# Altium schematic symbol library Capacitors.SchLib: 69 symbols
Pins are listed as number, name and electrical type; pins without a type are passive.

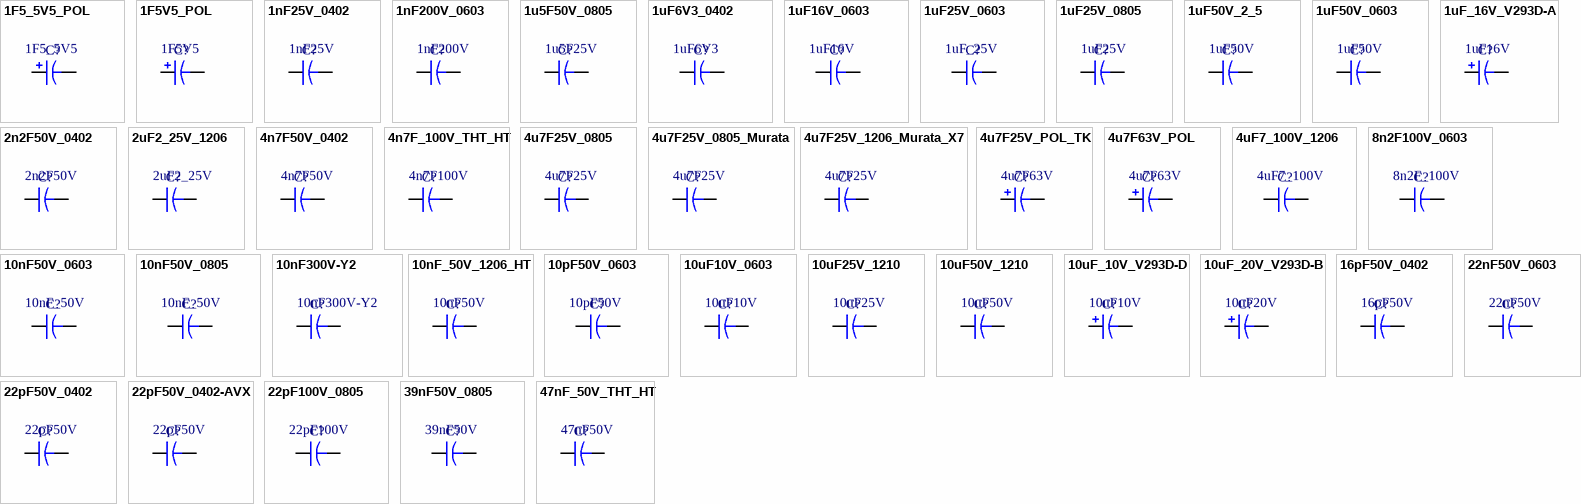
[diagram p0: symbols 1F5_5V5_POL to 47nF_50V_THT_HT]

## 1F5_5V5_POL
designator C?  value 1F5_5V5  (hidden comment: 1F5_5V5_POL)
Panasonic, F series; Deliverer PartNr: 1305065; Manufacturer PartNr: EECF5R5U155; Deliverer: Farnell; TDE-PN: C0042; Published: 26.02.2014; Part Description: Panasonic, F series; Publisher: Sebastian Kulik; PackageDescription: Goldcap-B; Manufacturer: Panasonic
simulation model CAP (Capacitor)
signal-integrity model Cap
footprint Goldcap_B (Capacitor, Body 21.5x9.5mm, IPC High Density)
pins: 1, 2

## 1F5V5_POL
designator C?  value 1F5V5  (hidden comment: 1F5V5_POL)
Panasonic, F series; Deliverer PartNr: 1305063; Manufacturer PartNr: EECF5R5H105; Deliverer: Farnell; TDE-PN: C0041; Published: 26.02.2014; Part Description: Panasonic, F series; Publisher: Sebastian Kulik; PackageDescription: Goldcap-B; Manufacturer: Panasonic
simulation model CAP (Capacitor)
signal-integrity model Cap
footprint Goldcap_B (Capacitor, Body 21.5x9.5mm, IPC High Density)
pins: 1, 2

## 1nF25V_0402
designator C?  value 1nF25V  (hidden comment: 1nF25V_0402)
AVX, X7R, 10%, 25V; Deliverer PartNr: 2332485; Manufacturer PartNr: 04023C102KAT2A; Deliverer: Farnell; TDE-PN: C0001; Published: 11.02.2014; Part Description: AVX, X7R, 10%, 25V; Publisher: Sebastian Kulik; PackageDescription: C0402; Manufacturer: AVX
footprint C0402 (Chip Capacitor, Body 1.0x0.5mm, IPC High Density)
simulation model CAP (Capacitor)
signal-integrity model Cap
pins: 1, 2

## 1nF200V_0603
designator C?  value 1nF200V  (hidden comment: 1nF200V_0603)
MLCC series, X7R, 10%, 200V; Deliverer PartNr: 1740637; Manufacturer: AVX; Manufacturer PartNr: 06032C102KAT2A; Deliverer: Farnell; TDE-PN: C0002; Published: 11.03.2014; Part Description: MLCC series, X7R, 10%, 200V; Publisher: Sebastian Kulik; PackageDescription: C0603
footprint C0603 (Chip Capacitor, 0603)
simulation model CAP (Capacitor)
signal-integrity model Cap
pins: 1, 2

## 1u5F50V_0805
designator C?  value 1u5F25V  (hidden comment: 1u5F50V_0805)
X7R, 10%; Deliverer PartNr: 723-6098; Manufacturer: Murata; Manufacturer PartNr: GRM21BR71E155KA88L; Deliverer: RS; TDE-PN: C0064; Published: 19.02.2016; Part Description: X7R, 10%; Publisher: Sebastian Kulik; PackageDescription: C0805
footprint C0805 (Chip Capacitor, Body 2.0x1.3mm, IPC High Density)
simulation model CAP (Capacitor)
signal-integrity model Cap
pins: 1, 2

## 1uF6V3_0402
designator C?  value 1uF6V3  (hidden comment: 1uF6V3_0402)
AVX, X5R, 10%, 6V3; Deliverer PartNr: 1327658; Manufacturer PartNr: 04026D105KAT2A; Deliverer: Farnell; TDE-PN: C0003; Published: 11.02.2014; Part Description: AVX, X5R, 10%, 6V3; Publisher: Sebastian Kulik; PackageDescription: C0402; Manufacturer: AVX
footprint C0402 (Chip Capacitor, Body 1.0x0.5mm, IPC High Density)
simulation model CAP (Capacitor)
signal-integrity model Cap
pins: 1, 2

## 1uF16V_0603
designator C?  value 1uF16V  (hidden comment: 1uF16V_0603)
C series, X5R, 16V,  10%; Deliverer PartNr: 2280767; Manufacturer: TDK; Manufacturer PartNr: C1608X5R1C105K080AA; Deliverer: Farnell; TDE-PN: C0004; Published: 11.03.2014; Part Description: C series, X5R, 16V,  10%; Publisher: Sebastian Kulik; PackageDescription: C0603
footprint C0603 (Chip Capacitor, 0603)
simulation model CAP (Capacitor)
signal-integrity model Cap
pins: 1, 2

## 1uF25V_0603
designator C?  value 1uF_25V  (hidden comment: 1uF25V_0603)
MLCC series, X5R, 10%, 25V; Deliverer PartNr: 1658868RL; Manufacturer: AVX; Manufacturer PartNr: 06033D105KAT2A; Deliverer: Farnell; TDE-PN: C0006; Published: 13.02.2014; Part Description: MLCC series, X5R, 10%, 25V; Publisher: Sebastian Kulik; PackageDescription: C0603
footprint C0603 (Chip Capacitor, 0603)
simulation model CAP (Capacitor)
signal-integrity model Cap
pins: 1, 2

## 1uF25V_0805
designator C?  value 1uF25V  (hidden comment: 1uF25V_0805)
X7R, 10%; Deliverer PartNr: 1833845RL; Manufacturer: AVX; Manufacturer PartNr: 08053C105K4Z2A; Deliverer: Farnell; TDE-PN: C0051; Published: 28.10.2014; Part Description: X7R, 10%; Publisher: Sebastian Kulik; PackageDescription: C0805
footprint C0805 (Chip Capacitor, Body 2.0x1.3mm, IPC High Density)
simulation model CAP (Capacitor)
signal-integrity model Cap
pins: 1, 2

## 1uF50V_2_5
designator C?  value 1uF50V  (hidden comment: 1uF50V_2_5)
Polyester, 10%; Deliverer PartNr: 1890122; Manufacturer: WIMA; Manufacturer PartNr: MKS0B041000F00KSSD; Deliverer: Farnell; TDE-PN: C0052; Published: 05.11.2014; Part Description: Polyester, 10%; Publisher: Sebastian Kulik; PackageDescription: C2.5-3
footprint C2.5-3
simulation model CAP (Capacitor)
signal-integrity model Cap
pins: 1, 2

## 1uF50V_0603
designator C?  value 1uF50V  (hidden comment: 1uF50V_0603)
C series, X5R, 10%; Deliverer PartNr: 2211179; Manufacturer: TDK; Manufacturer PartNr: C1608X5R1H105K080AB; Deliverer: Farnell; TDE-PN: C0037; Published: 13.02.2014; Part Description: C series, X5R, 10%; Publisher: Sebastian Kulik; PackageDescription: C0603
footprint C0603 (Chip Capacitor, 0603)
simulation model CAP (Capacitor)
signal-integrity model Cap
pins: 1, 2

## 1uF_16V_V293D-A
designator C?  value 1uF16V  (hidden comment: 1uF_16V_V293D-A)
293 series, tantal, 10%, 16V; Deliverer PartNr: 1617260; Manufacturer: Vishay; Manufacturer PartNr: 293D105X9016A2TE3; Deliverer: Farnell; TDE-PN: C0005; Published: 11.03.2014; Part Description: 293 series, tantal, 10%, 16V; Publisher: Sebastian Kulik; PackageDescription: Vishay-293D-A
simulation model CAP (Capacitor)
signal-integrity model Cap
footprint Vishay293D-A
pins: 1, 2

## 2n2F50V_0402
designator C?  value 2n2F50V  (hidden comment: 2n2F50V_0402)
AVX, X7R, 10%, 50V; Deliverer PartNr: 2280791; Manufacturer PartNr: 04025C472KAT2A; Deliverer: Farnell; TDE-PN: C0008; Published: 11.03.2014; Part Description: AVX, X7R, 10%, 50V; Publisher: Sebastian Kulik; PackageDescription: C0402; Manufacturer: AVX
footprint C0402 (Chip Capacitor, Body 1.0x0.5mm, IPC High Density)
simulation model CAP (Capacitor)
signal-integrity model Cap
pins: 1, 2

## 2uF2_25V_1206
designator C?  value 2uF2_25V  (hidden comment: 2uF2_25V_1206)
C series, X7R, 10%, 25V; Deliverer PartNr: 2164399; Manufacturer: TDK; Manufacturer PartNr: C3216X7R1E225K; Deliverer: Farnell; TDE-PN: C0009; Published: 11.03.2014; Part Description: C series, X7R, 10%, 25V; Publisher: Sebastian Kulik; PackageDescription: C1206
simulation model CAP (Capacitor)
signal-integrity model Cap
footprint C1206 (Chip Capacitor, Body 3.2x1.6mm, IPC High Density)
pins: 1, 2

## 4n7F50V_0402
designator C?  value 4n7F50V  (hidden comment: 4n7F50V_0402)
AVX, X7R, 10%, 50V; Deliverer PartNr: 1327656; Manufacturer PartNr: 04025C472KAT2A; Deliverer: Farnell; TDE-PN: C0010; Published: 11.02.2014; Part Description: AVX, X7R, 10%, 50V; Publisher: Sebastian Kulik; PackageDescription: C0402; Manufacturer: AVX
footprint C0402 (Chip Capacitor, Body 1.0x0.5mm, IPC High Density)
simulation model CAP (Capacitor)
signal-integrity model Cap
pins: 1, 2

## 4n7F_100V_THT_HT
designator C?  value 4n7F100V  (hidden comment: 4n7F_100V_THT_HT)
High Temp C052/062H series, NP0, 10%, 100V; Part Description: High Temp C052/062H series, NP0, 10%, 200V; Deliverer PartNr: 2452197; Manufacturer: Kemet; Manufacturer PartNr: C052H472J1G5GA; Deliverer: Farnell; TDE-PN: C0071; Published: 14.07.2016; Publisher: Sebastian Kulik; PackageDescription: KEMET, C052H/C062 Series, THT; Price: 6.98/1
simulation model CAP (Capacitor)
signal-integrity model Cap
footprint KEMET-C052H (KEMET, C052H/C062 Series, THT)
pins: 1, 2

## 4u7F25V_0805
designator C?  value 4u7F25V  (hidden comment: 4u7F25V_0805)
TDK  C series, X7R, 10%, 25V; Deliverer PartNr: 2346943; Manufacturer PartNr: C2012X7R1E475K125AB; Deliverer: Farnell; TDE-PN: C0035; Published: 13.02.2014; Part Description: TDK  C series, X7R, 10%, 25V; Publisher: Sebastian Kulik; PackageDescription: C0805; Manufacturer: TDK
footprint C0805 (Chip Capacitor, Body 2.0x1.3mm, IPC High Density)
simulation model CAP (Capacitor)
signal-integrity model Cap
pins: 1, 2

## 4u7F25V_0805_Murata
designator C?  value 4u7F25V  (hidden comment: 4u7F25V_0805_Murata)
GRM series, X5R, 10%, 25V; Deliverer PartNr: 2362111; Manufacturer: Murata; Manufacturer PartNr: GRM21BR61E475MA12L; Deliverer: Farnell; TDE-PN: C0045; Published: 13.02.2014; Part Description: GRM series, X5R, 10%, 25V; Publisher: Sebastian Kulik; PackageDescription: C0805
footprint C0805 (Chip Capacitor, Body 2.0x1.3mm, IPC High Density)
simulation model CAP (Capacitor)
signal-integrity model Cap
pins: 1, 2

## 4u7F25V_1206_Murata_X7
designator C?  value 4u7F25V  (hidden comment: 4u7F25V_1206_Murata_X7)
GRM series, X7R, 10%, 50V; Part Description: GRM series, X5R, 10%, 50V; Deliverer PartNr: 1735545; Manufacturer: Murata; Manufacturer PartNr: GRM31CR71H475KA12L; Deliverer: Farnell; TDE-PN: C0046; Published: 30.06.2014; Publisher: Sebastian Kulik; PackageDescription: C1206
footprint C1206 (Chip Capacitor, Body 3.2x1.6mm, IPC High Density)
simulation model CAP (Capacitor)
signal-integrity model Cap
pins: 1, 2

## 4u7F25V_POL_TK
designator C?  value 4u7F63V  (hidden comment: 4u7F25V_POL_TK)
Panasonic, TK series; Deliverer PartNr: 9695990; Manufacturer PartNr: EEEFK1J4R7R; Deliverer: Farnell; TDE-PN: C0058; Published: 11.12.2014; Part Description: Panasonic, TK series; Publisher: Sebastian Kulik; PackageDescription: Panasonic-FT-C_Case; Manufacturer: Panasonic
footprint Panasonic-FT-C_Case (SMD electrolytic, Panasonic)
simulation model CAP (Capacitor)
signal-integrity model Cap
pins: 1, 2

## 4u7F63V_POL
designator C?  value 4u7F63V  (hidden comment: 4u7F63V_POL)
Panasonic, EB series; Deliverer PartNr: 2079110; Manufacturer PartNr: EEUEB1J4R7S; Deliverer: Farnell; TDE-PN: C0050; Published: 27.10.2014; Part Description: Panasonic, EB series; Publisher: Sebastian Kulik; PackageDescription: Panasonic-H13; Manufacturer: Panasonic
simulation model CAP (Capacitor)
signal-integrity model Cap
footprint E2-4
pins: 1, 2

## 4uF7_100V_1206
designator C?  value 4uF7_100V  (hidden comment: 4uF7_100V_1206)
C series, X7R, 10%, 25V; Part Description: X7S series; Deliverer PartNr: 2310265; Manufacturer: AVX; Manufacturer PartNr: 12061Z475KAT2A; Deliverer: Farnell; TDE-PN: C0056; Published: 19.11.2014; Publisher: Sebastian Kulik; PackageDescription: C1206
simulation model CAP (Capacitor)
signal-integrity model Cap
footprint C1206 (Chip Capacitor, Body 3.2x1.6mm, IPC High Density)
pins: 1, 2

## 8n2F100V_0603
designator C?  value 8n2F_100V  (hidden comment: 8n2F100V_0603)
MLCC series, X7R, 10%, 100V; Deliverer PartNr: 1740634; Manufacturer: AVX; Manufacturer PartNr: 06031C822KAT2A; Deliverer: Farnell; TDE-PN: C0012; Published: 11.03.2014; Part Description: MLCC series, X7R, 10%, 100V; Publisher: Sebastian Kulik; PackageDescription: C0603
footprint C0603 (Chip Capacitor, 0603)
simulation model CAP (Capacitor)
signal-integrity model Cap
pins: 1, 2

## 10nF50V_0603
designator C?  value 10nF_50V  (hidden comment: 10nF50V_0603)
GRM series,  X7R, 10%, 50V; Deliverer PartNr: 8819980; Manufacturer: Murata; Manufacturer PartNr: GRM188R71H103KA01D; Deliverer: Farnell; TDE-PN: C0060; Published: 12.12.2014; Part Description: GRM series,  X7R, 10%, 50V; Publisher: Sebastian Kulik; PackageDescription: C0603
footprint C0603 (Chip Capacitor, 0603)
simulation model CAP (Capacitor)
signal-integrity model Cap
pins: 1, 2

## 10nF50V_0805
designator C?  value 10nF_50V  (hidden comment: 10nF50V_0805)
C series,  X7R, 10%, 50V; Deliverer PartNr: 1414662RL; Manufacturer: Kemet; Manufacturer PartNr: C0805C103K5RACTU; Deliverer: Farnell; TDE-PN: C0013; Published: 11.03.2014; Part Description: C series,  X7R, 10%, 50V; Publisher: Sebastian Kulik; PackageDescription: C0805
footprint C0805 (Chip Capacitor, Body 2.0x1.3mm, IPC High Density)
simulation model CAP (Capacitor)
signal-integrity model Cap
pins: 1, 2

## 10nF300V-Y2
designator C?
Y2 capacitor; Deliverer PartNr: 2395807; Manufacturer: EPCOS; Manufacturer PartNr: B32021A3103M; Deliverer: Farnell; TDE-PN: C0062; Published: 22.01.2015; Part Description: Y2 capacitor; Publisher: Sebastian Kulik; PackageDescription: Foil-10x13; Value: 10nF300V-Y2
footprint Foil-10x13
simulation model CAP (Capacitor)
signal-integrity model Cap
pins: 1, 2

## 10nF_50V_1206_HT
designator C?  value 10nF50V  (hidden comment: 10nF_50V_1206_HT)
High Temp C series, NP0, 10%, 50V; Part Description: High Temp C series, NP0, 10%, 100V; Deliverer PartNr: 2135473; Manufacturer: Kemet; Manufacturer PartNr: C1206H103J1GACTU; Deliverer: Farnell; TDE-PN: C0067; Published: 29.06.2016; Publisher: Sebastian Kulik; PackageDescription: C1206; Price: 2.53/10
simulation model CAP (Capacitor)
signal-integrity model Cap
footprint C1206 (Chip Capacitor, Body 3.2x1.6mm, IPC High Density)
pins: 1, 2

## 10pF50V_0603
designator C?  value 10pF50V  (hidden comment: 10pF50V_0603)
AVX ,  +-0.5pF, 50V; Deliverer PartNr: 2332595; Manufacturer PartNr: 06035A100DAT2A; Deliverer: Farnell; TDE-PN: C0033; Published: 13.02.2014; Part Description: AVX ,  +-0.5pF, 50V; Publisher: Sebastian Kulik; PackageDescription: C0603; Manufacturer: AVX
footprint C0603 (Chip Capacitor, 0603)
simulation model CAP (Capacitor)
signal-integrity model Cap
pins: 1, 2

## 10uF10V_0603
designator C?  value 10uF10V  (hidden comment: 10uF10V_0603)
AVX ,  X5R, 20%, 10V; Deliverer PartNr: 1867954; Manufacturer PartNr: 0603ZD106MAT2A; Deliverer: Farnell; TDE-PN: C0016; Published: 11.02.2014; Part Description: AVX ,  X5R, 20%, 10V; Publisher: Sebastian Kulik; PackageDescription: C0603; Manufacturer: AVX
footprint C0603 (Chip Capacitor, 0603)
simulation model CAP (Capacitor)
signal-integrity model Cap
pins: 1, 2

## 10uF25V_1210
designator C?  value 10uF25V  (hidden comment: 10uF25V_1210)
TDK  C series, X5R, 10%, 25V; Deliverer PartNr: 2346957; Manufacturer PartNr: C3225X5R1E106K250AA; Deliverer: Farnell; TDE-PN: C0014; Published: 12.02.2014; Part Description: TDK  C series, X5R, 10%, 25V; Publisher: Sebastian Kulik; PackageDescription: C1210; Manufacturer: TDK
footprint C1210 (Chip Capacitor, Body 3.2x2.5mm, IPC High Density)
simulation model CAP (Capacitor)
signal-integrity model Cap
pins: 1, 2

## 10uF50V_1210
designator C?  value 10uF50V  (hidden comment: 10uF50V_1210)
AVX,  X7R, 10%, 50V; Deliverer PartNr: 2094047; Manufacturer PartNr: 12105C106KAT2A; Deliverer: Farnell; TDE-PN: C0039; Published: 17.02.2014; Part Description: AVX,  X7R, 10%, 50V; Publisher: Sebastian Kulik; PackageDescription: C1210; Manufacturer: AVX
footprint C1210 (Chip Capacitor, Body 3.2x2.5mm, IPC High Density)
simulation model CAP (Capacitor)
signal-integrity model Cap
pins: 1, 2

## 10uF_10V_V293D-D
designator C?  value 10uF10V  (hidden comment: 10uF_10V_V293D-D)
293 series, tantal, 10%, 10V; Part Description: 293 series, tantal, 10%, 20V; Deliverer PartNr: 2353045RL; Manufacturer: Vishay; Manufacturer PartNr: 293D106X9010A2TE3; Deliverer: Farnell; TDE-PN: C0055; Published: 11.11.2014; Publisher: Sebastian Kulik; PackageDescription: SMC-D
simulation model CAP (Capacitor)
signal-integrity model Cap
footprint SMC_D
pins: 1, 2

## 10uF_20V_V293D-B
designator C?  value 10uF20V  (hidden comment: 10uF_20V_V293D-B)
293 series, tantal, 10%, 10V; Part Description: 293 series, tantal, 10%, 20V; Deliverer PartNr: 1754203; Manufacturer: Vishay; Manufacturer PartNr: 293D106X9020B2TE3; Deliverer: Farnell; TDE-PN: C0043; Published: 14.03.2014; Publisher: Sebastian Kulik; PackageDescription: Vishay-293D-B
simulation model CAP (Capacitor)
signal-integrity model Cap
footprint Vishay293D-B
pins: 1, 2

## 16pF50V_0402
designator C?  value 16pF50V  (hidden comment: 16pF50V_0402)
C series, 5%, 50V; Deliverer PartNr: 1865423; Manufacturer: Kemet; Manufacturer PartNr: C0402C160J5GACTU; Deliverer: Farnell; TDE-PN: C0020; Published: 11.03.2014; Part Description: C series, 5%, 50V; Publisher: Sebastian Kulik; PackageDescription: C0402
footprint C0402 (Chip Capacitor, Body 1.0x0.5mm, IPC High Density)
simulation model CAP (Capacitor)
signal-integrity model Cap
pins: 1, 2

## 22nF50V_0603
designator C?  value 22nF50V  (hidden comment: 22nF50V_0603)
AVX ,  X7R, 5%, 50V; Deliverer PartNr: 2332645; Manufacturer PartNr: 06035C223JAT2A; Deliverer: Farnell; TDE-PN: C0034; Published: 13.02.2014; Part Description: AVX ,  X7R, 5%, 50V; Publisher: Sebastian Kulik; PackageDescription: C0603; Manufacturer: AVX
footprint C0603 (Chip Capacitor, 0603)
simulation model CAP (Capacitor)
signal-integrity model Cap
pins: 1, 2

## 22pF50V_0402
designator C?  value 22pF50V  (hidden comment: 22pF50V_0402)
Murata, GRM series, 50V; Deliverer PartNr: 8819629RL; Manufacturer PartNr: GRM1555C1H220JZ01D; Deliverer: Farnell; TDE-PN: C0021; Published: 11.02.2014; Part Description: Murata, GRM series, 50V; Publisher: Sebastian Kulik; PackageDescription: C0402; Manufacturer: Murata
footprint C0402 (Chip Capacitor, Body 1.0x0.5mm, IPC High Density)
simulation model CAP (Capacitor)
signal-integrity model Cap
pins: 1, 2

## 22pF50V_0402-AVX
designator C?  value 22pF50V  (hidden comment: 22pF50V_0402-AVX)
AVX, 50V; Deliverer PartNr: 2332500; Manufacturer PartNr: 04025A220FAT2A; Deliverer: Farnell; TDE-PN: C0021; Published: 22.10.2014; Part Description: AVX, 50V; Publisher: Sebastian Kulik; PackageDescription: C0402; Manufacturer: AVX
footprint C0402 (Chip Capacitor, Body 1.0x0.5mm, IPC High Density)
simulation model CAP (Capacitor)
signal-integrity model Cap
pins: 1, 2

## 22pF100V_0805
designator C?  value 22pF100V  (hidden comment: 22pF100V_0805)
Ceramic generic; Deliverer PartNr: 2280925; Manufacturer: AVX; Manufacturer PartNr: 08051A220JAT2A; Deliverer: Farnell; TDE-PN: C0054; Published: 11.11.2014; Part Description: Ceramic generic; Publisher: Sebastian Kulik; PackageDescription: C0805
footprint C0805 (Chip Capacitor, Body 2.0x1.3mm, IPC High Density)
simulation model CAP (Capacitor)
signal-integrity model Cap
pins: 1, 2

## 39nF50V_0805
designator C?  value 39nF50V  (hidden comment: 39nF50V_0805)
X7R, 10%, 50V; Deliverer PartNr: 2332801; Manufacturer: AVX; Manufacturer PartNr: 08055C393KAT2A; Deliverer: Farnell; TDE-PN: C0022; Published: 11.03.2014; Part Description: X7R, 10%, 50V; Publisher: Sebastian Kulik; PackageDescription: C0805
footprint C0805 (Chip Capacitor, Body 2.0x1.3mm, IPC High Density)
simulation model CAP (Capacitor)
signal-integrity model Cap
pins: 1, 2

## 47nF_50V_THT_HT
designator C?  value 47nF50V  (hidden comment: 47nF_50V_THT_HT)
High Temp AEC-Q200 KH Series, ± 10%, X0U, 50 V; Part Description: High Temp C series, NP0, 10%, 50V; Deliverer PartNr: 2544869; Manufacturer: Vishay; Manufacturer PartNr: K473K15X0UF53H5H; Deliverer: Farnell; TDE-PN: C0074; Published: 0.38/10; Publisher: Sebastian Kulik; PackageDescription: High Temp AEC-Q200 KH Series, ± 10%, X0U, 50 V; Price: 10.64/1
simulation model CAP (Capacitor)
signal-integrity model Cap
footprint KEMET-C052H (KEMET, C052H/C062 Series, THT)
pins: 1, 2

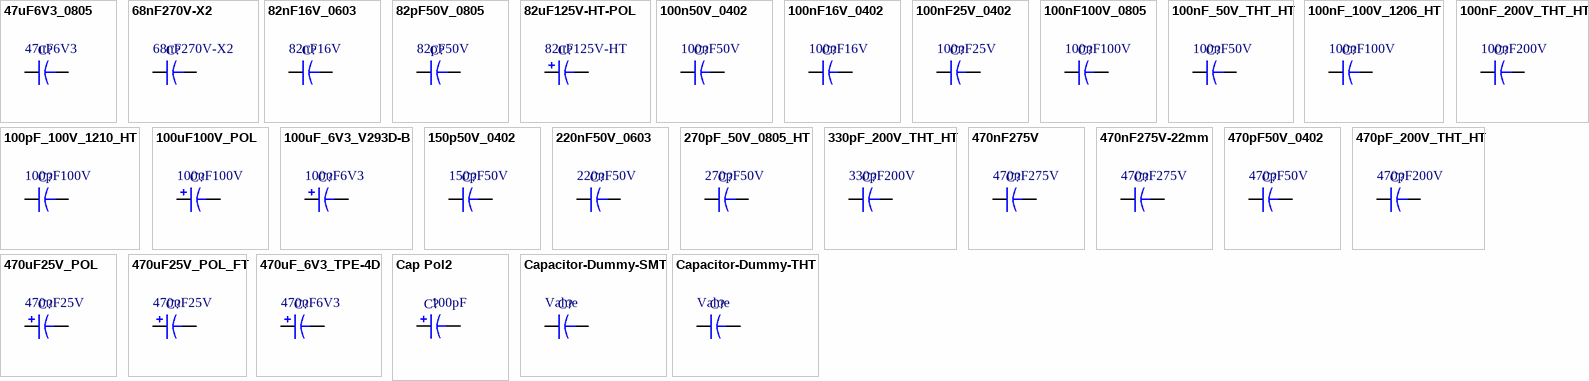
[diagram p1: symbols 47uF6V3_0805 to Capacitor-Dummy-THT]

## 47uF6V3_0805
designator C?  value 47uF6V3  (hidden comment: 47uF6V3_0805)
Kemet  C series, X5R, 20%, 6.3V; Deliverer PartNr: 1572633RL; Manufacturer PartNr: C0805C476M9PACTU; Deliverer: Farnell; TDE-PN: C0040; Published: 18.02.2014; Part Description: Kemet  C series, X5R, 20%, 6.3V; Publisher: Sebastian Kulik; PackageDescription: C0805; Manufacturer: Kemet
footprint C0805 (Chip Capacitor, Body 2.0x1.3mm, IPC High Density)
simulation model CAP (Capacitor)
signal-integrity model Cap
pins: 1, 2

## 68nF270V-X2
designator C?
X2 capacitor; Deliverer PartNr: 890324022017CS; Deliverer: We; TDE-PN: C0061; Published: 21.01.2015; Part Description: X2 capacitor; Publisher: Sebastian Kulik; PackageDescription: Foil-7,5x10; Manufacturer: WE; Manufacturer PartNr: 890324022017CS; Value: 68nF270V-X2
footprint Foil-7,5x10
simulation model CAP (Capacitor)
signal-integrity model Cap
pins: 1, 2

## 82nF16V_0603
designator C?  value 82nF16V  (hidden comment: 82nF16V_0603)
X7R, 10%, 16V; Deliverer PartNr: 2332676; Manufacturer: AVX; Manufacturer PartNr: 0603YC823KAT2A; Deliverer: Farnell; TDE-PN: C0024; Published: 11.03.2014; Part Description: X7R, 10%, 16V; Publisher: Sebastian Kulik; PackageDescription: C0603
footprint C0603 (Chip Capacitor, 0603)
simulation model CAP (Capacitor)
signal-integrity model Cap
pins: 1, 2

## 82pF50V_0805
designator C?  value 82pF50V  (hidden comment: 82pF50V_0805)
C0G series, 5%, 50V; Deliverer PartNr: 2280684; Manufacturer: AVX; Manufacturer PartNr: 08055A820JAT2A; Deliverer: Farnell; TDE-PN: C0047; Published: 30.06.2014; Part Description: C0G series, 5%, 50V; Publisher: Sebastian Kulik; PackageDescription: C0805
footprint C0805 (Chip Capacitor, Body 2.0x1.3mm, IPC High Density)
simulation model CAP (Capacitor)
signal-integrity model Cap
pins: 1, 2

## 82uF125V-HT-POL
designator C?  value 82uF125V-HT  (hidden comment: 82uF125V-HT-POL)
Vishay, Tantal, HT; Deliverer PartNr: 718-1254-ND; Manufacturer PartNr: 135D826X9125K6; Deliverer: DigiKey; TDE-PN: C0076; Published: 07.09.2016; Part Description: Vishay, Tantal, HT; Publisher: Sebastian Kulik; PackageDescription: 165D; Manufacturer: Vishay
simulation model CAP (Capacitor)
signal-integrity model Cap
footprint 165D (135D826X9125K6)
pins: 1, 2

## 100n50V_0402
designator C?  value 100nF50V  (hidden comment: 100n50V_0402)
C series, X5R, 10%, 50V; Part Description: GRM series, X5R, 10%, 50V; Deliverer PartNr: 2218856; Manufacturer: Murata; Manufacturer PartNr: GRM155R61H104KE19D; Deliverer: Farnell; TDE-PN: C0044; Published: 13.02.2014; Publisher: Sebastian Kulik; PackageDescription: C0402
footprint C0402 (Chip Capacitor, Body 1.0x0.5mm, IPC High Density)
simulation model CAP (Capacitor)
signal-integrity model Cap
pins: 1, 2

## 100nF16V_0402
designator C?  value 100nF16V  (hidden comment: 100nF16V_0402)
TDK. CGA series, X7R, 10%, 16V; Deliverer PartNr: 2210748; Manufacturer: TDK; Manufacturer PartNr: CGA2B1X7R1C104K050BC; Deliverer: Farnell; TDE-PN: C0025; Published: 12.02.2014; Part Description: TDK. CGA series, X7R, 10%, 16V; Publisher: Sebastian Kulik; PackageDescription: C0402
footprint C0402 (Chip Capacitor, Body 1.0x0.5mm, IPC High Density)
simulation model CAP (Capacitor)
signal-integrity model Cap
pins: 1, 2

## 100nF25V_0402
designator C?  value 100nF25V  (hidden comment: 100nF25V_0402)
AVX, X5R, 10%, 25V; Deliverer PartNr: 1833862; Manufacturer PartNr: 04023D104KAT2A; Deliverer: Farnell; TDE-PN: C0036; Published: 09.12.2014; Part Description: AVX, X5R, 10%, 25V; Publisher: Sebastian Kulik; PackageDescription: C0402; Manufacturer: AVX
footprint C0402 (Chip Capacitor, Body 1.0x0.5mm, IPC High Density)
simulation model CAP (Capacitor)
signal-integrity model Cap
pins: 1, 2

## 100nF100V_0805
designator C?  value 100nF100V  (hidden comment: 100nF100V_0805)
AVX, X7R, 5%, 100V; Deliverer PartNr: 2332715; Manufacturer PartNr: 08051C104JAT2A; Deliverer: Farnell; TDE-PN: C0049; Published: 27.10.2014; Part Description: AVX, X7R, 5%, 100V; Publisher: Sebastian Kulik; PackageDescription: C0805; Manufacturer: AVX
footprint C0805 (Chip Capacitor, Body 2.0x1.3mm, IPC High Density)
simulation model CAP (Capacitor)
signal-integrity model Cap
pins: 1, 2

## 100nF_50V_THT_HT
designator C?  value 100nF50V  (hidden comment: 100nF_50V_THT_HT)
High Temp C series, NP0, 10%, 50V; Deliverer PartNr: 2452193; Manufacturer: Kemet; Manufacturer PartNr: C052H104K5G5GA; Deliverer: Farnell; TDE-PN: C0073; Published: 18.07.2016; Part Description: High Temp C series, NP0, 10%, 50V; Publisher: Sebastian Kulik; PackageDescription: KEMET, C052H/C062 Series, THT; Price: 10.64/1
simulation model CAP (Capacitor)
signal-integrity model Cap
footprint KEMET-C052H (KEMET, C052H/C062 Series, THT)
pins: 1, 2

## 100nF_100V_1206_HT
designator C?  value 100nF100V  (hidden comment: 100nF_100V_1206_HT)
High Temp C series, NP0, 10%, 100V; Deliverer PartNr: 2456676; Manufacturer: Kemet; Manufacturer PartNr: C1210H104J1GACT500; Deliverer: Farnell; TDE-PN: C0069; Published: 29.06.2016; Part Description: High Temp C series, NP0, 10%, 100V; Publisher: Sebastian Kulik; PackageDescription: C1206; Price: 24.59/1
simulation model CAP (Capacitor)
signal-integrity model Cap
footprint C1206 (Chip Capacitor, Body 3.2x1.6mm, IPC High Density)
pins: 1, 2

## 100nF_200V_THT_HT
designator C?  value 100nF200V  (hidden comment: 100nF_200V_THT_HT)
High Temp AEC-Q200 KH Series, ± 10%, X0U, 200 V; Deliverer PartNr: 2544877; Manufacturer: Vishay; Manufacturer PartNr: K104K20X0UK63H5H; Deliverer: Farnell; TDE-PN: C0072; Published: 14.07.2016; Part Description: High Temp AEC-Q200 KH Series, ± 10%, X0U, 200 V; Publisher: Sebastian Kulik; PackageDescription: KEMET, C052H/C062 Series, THT; Price: 0.51/10
simulation model CAP (Capacitor)
signal-integrity model Cap
footprint KEMET-C052H (KEMET, C052H/C062 Series, THT)
pins: 1, 2

## 100pF_100V_1210_HT
designator C?  value 100pF100V  (hidden comment: 100pF_100V_1210_HT)
High Temp C series, NP0, 10%, 100V; Deliverer PartNr: 2456675RL; Manufacturer: Kemet; Manufacturer PartNr: C1210H101K1GACTU; Deliverer: Farnell; TDE-PN: C0066; Published: 29.06.2016; Part Description: High Temp C series, NP0, 10%, 100V; Publisher: Sebastian Kulik; PackageDescription: C1210; Price: 2.53/10
simulation model CAP (Capacitor)
signal-integrity model Cap
footprint C1210 (Chip Capacitor, Body 3.2x2.5mm, IPC High Density)
pins: 1, 2

## 100uF100V_POL
designator C?  value 100uF100V  (hidden comment: 100uF100V_POL)
Panasonic, FK series; Deliverer PartNr: 708-4011; Manufacturer PartNr: EEEFK2A101AM; Deliverer: RS; TDE-PN: C0065; Published: 20.02.2016; Part Description: Panasonic, FK series; Publisher: Sebastian Kulik; PackageDescription: Panasonic-H13; Manufacturer: Panasonic
footprint Panasonic-J16 (SMD electrolytic, Panasonic)
simulation model CAP (Capacitor)
signal-integrity model Cap
pins: 1, 2

## 100uF_6V3_V293D-B
designator C?  value 100uF6V3  (hidden comment: 100uF_6V3_V293D-B)
293 series, tantal, 10%, 6.3V; Deliverer PartNr: 1754153; Manufacturer: Vishay; Manufacturer PartNr: 293D107X96R3B2TE3; Deliverer: Farnell; TDE-PN: C0028; Published: 11.03.2014; Part Description: 293 series, tantal, 10%, 6.3V; Publisher: Sebastian Kulik; PackageDescription: Vishay293D-B
simulation model CAP (Capacitor)
signal-integrity model Cap
footprint Vishay293D-B
pins: 1, 2

## 150p50V_0402
designator C?  value 150pF50V  (hidden comment: 150p50V_0402)
C series, 5%, 50V; Part Description: GRM series,5%, 50V; Deliverer PartNr: 8819602; Manufacturer: Murata; Manufacturer PartNr: GRM1555C1H151JA01D; Deliverer: Farnell; TDE-PN: C0059; Published: 11.12.2014; Publisher: Sebastian Kulik; PackageDescription: C0402
footprint C0402 (Chip Capacitor, Body 1.0x0.5mm, IPC High Density)
simulation model CAP (Capacitor)
signal-integrity model Cap
pins: 1, 2

## 220nF50V_0603
designator C?  value 220nF50V  (hidden comment: 220nF50V_0603)
C series, X7R, 10%, 50V; Deliverer PartNr: 2346906; Manufacturer: TDK; Manufacturer PartNr: C1608X7R1H224K080AB; Deliverer: Farnell; TDE-PN: C0029; Published: 11.03.2014; Part Description: C series, X7R, 10%, 50V; Publisher: Sebastian Kulik; PackageDescription: C0603
footprint C0603 (Chip Capacitor, 0603)
simulation model CAP (Capacitor)
signal-integrity model Cap
pins: 1, 2

## 270pF_50V_0805_HT
designator C?  value 270pF50V  (hidden comment: 270pF_50V_0805_HT)
High Temp HV-HT series, NP0, 10%, 50V; Deliverer PartNr: 2406575; Manufacturer: Kemet; Manufacturer PartNr: C0805H271JDGACT250; Deliverer: Farnell; TDE-PN: C0068; Published: 29.06.2016; Part Description: High Temp HV-HT series, NP0, 10%, 50V; Publisher: Sebastian Kulik; PackageDescription: C0805; Price: 3.81/1
simulation model CAP (Capacitor)
signal-integrity model Cap
footprint C0805 (Chip Capacitor, Body 2.0x1.3mm, IPC High Density)
pins: 1, 2

## 330pF_200V_THT_HT
designator C?  value 330pF200V  (hidden comment: 330pF_200V_THT_HT)
High Temp C052/062H series, NP0, 10%, 200V; Deliverer PartNr: 2452200; Manufacturer: Kemet; Manufacturer PartNr: C052H331J2G5GA; Deliverer: Farnell; TDE-PN: C0070; Published: 14.07.2016; Part Description: High Temp C052/062H series, NP0, 10%, 200V; Publisher: Sebastian Kulik; PackageDescription: KEMET, C052H/C062 Series, THT; Price: 6.27/1
simulation model CAP (Capacitor)
signal-integrity model Cap
footprint KEMET-C052H (KEMET, C052H/C062 Series, THT)
pins: 1, 2

## 470nF275V
designator C?
X2, PP; Deliverer PartNr: 2450023; Manufacturer: WE; Manufacturer PartNr: 890324025039CS; Deliverer: Farnell; TDE-PN: C0053; Published: 07.11.2014; Part Description: X2, PP; Publisher: Sebastian Kulik; PackageDescription: C150-072X183; Value: 470nF275V
footprint C150-072X183
simulation model CAP (Capacitor)
signal-integrity model Cap
pins: 1, 2

## 470nF275V-22mm
designator C?  value 470nF275V  (hidden comment: 470nF275V-22mm)
X2, PP; Deliverer PartNr: 1679317; Manufacturer: Kemet; Manufacturer PartNr: R46KN347050N0K; Deliverer: Farnell; TDE-PN: C0057; Published: 19.11.2014; Part Description: X2, PP; Publisher: Sebastian Kulik; PackageDescription: C225-087X268
footprint C225-087X268
simulation model CAP (Capacitor)
signal-integrity model Cap
pins: 1, 2

## 470pF50V_0402
designator C?  value 470pF50V  (hidden comment: 470pF50V_0402)
AVX, 50V; Deliverer PartNr: 1657927; Manufacturer PartNr: 04025A471JAT2A; Deliverer: Farnell; TDE-PN: C0030; Published: 13.02.2014; Part Description: AVX,50V; Publisher: Sebastian Kulik; PackageDescription: C0402; Manufacturer: AVX
footprint C0402 (Chip Capacitor, Body 1.0x0.5mm, IPC High Density)
simulation model CAP (Capacitor)
signal-integrity model Cap
pins: 1, 2

## 470pF_200V_THT_HT
designator C?  value 470pF200V  (hidden comment: 470pF_200V_THT_HT)
High Temp C052/062H series, NP0, 10%, 200V; Part Description: High Temp C series, NP0, 10%, 50V; Deliverer PartNr: 2452199; Manufacturer: Kemet; Manufacturer PartNr: C052H471J2G5GA; Deliverer: Farnell; TDE-PN: C0075; Published: 6.79/1; Publisher: Sebastian Kulik; PackageDescription: High Temp C052/062H series, NP0, 10%, 200V; Price: 10.64/1
simulation model CAP (Capacitor)
signal-integrity model Cap
footprint KEMET-C052H (KEMET, C052H/C062 Series, THT)
pins: 1, 2

## 470uF25V_POL
designator C?  value 470uF25V  (hidden comment: 470uF25V_POL)
Panasonic, TG series; Deliverer PartNr: 2326382; Manufacturer PartNr: EEV-TG1E471Q; Deliverer: Farnell; TDE-PN: C0038; Published: 17.02.2014; Part Description: Panasonic, TG series; Publisher: Sebastian Kulik; PackageDescription: Panasonic-H13; Manufacturer: Panasonic
footprint Panasonic-H13 (SMD electrolytic, Panasonic)
simulation model CAP (Capacitor)
signal-integrity model Cap
pins: 1, 2

## 470uF25V_POL_FT
designator C?  value 470uF25V  (hidden comment: 470uF25V_POL_FT)
Panasonic, FT series; Deliverer PartNr: 1868411; Manufacturer PartNr: EEEFT1E471AP; Deliverer: Farnell; TDE-PN: C0048; Published: 23.09.2014; Part Description: Panasonic, FT series; Publisher: Sebastian Kulik; PackageDescription: Panasonic-FT-F; Manufacturer: Panasonic
footprint Panasonic-FT-F_Case (SMD electrolytic, Panasonic)
simulation model CAP (Capacitor)
signal-integrity model Cap
pins: 1, 2

## 470uF_6V3_TPE-4D
designator C?  value 470uF6V3  (hidden comment: 470uF_6V3_TPE-4D)
TPE-4D series, tantal, 10%, 6.3V; Deliverer PartNr: 2354921; Manufacturer: Panasonic; Manufacturer PartNr: 6TPE470MI; Deliverer: Farnell; TDE-PN: C0063; Published: 18.03.2015; Part Description: TPE-4D series, tantal, 10%, 6.3V; Publisher: Sebastian Kulik; PackageDescription: Panasonic, TPE-D4
simulation model CAP (Capacitor)
signal-integrity model Cap
footprint Panasonic_TPE-D4 (Panasonic, TPE-D4)
pins: 1, 2

## Cap Pol2
designator C?  value 100pF
Polarized Capacitor (Axial); Published: 8-Jun-2000; LatestRevisionDate: 17-Jul-2002; LatestRevisionNote: Re-released for DXP Platform.; PackageReference: POLAR0.8; Publisher: Altium Limited; PackageDescription: Polarized Capacitor; 2 Leads
footprint POLAR0.8 (Polarized Capacitor; 2 Leads)
simulation model CAP (Capacitor)
signal-integrity model Cap Pol
pins: 1, 2
1 alternate drawing of the same symbol

## Capacitor-Dummy-SMT
designator C?  (value not drawn)
Published: 11.03.2014; Part Description: Capacitor-Dummy-SMT; Publisher: Sebastian Kulik; PackageDescription: C0603; Deliverer: -; Deliverer PartNr: -; Manufacturer: -; Manufacturer PartNr: -; TDE-PN: -; Price: *; Value: Value
footprint C0603 (Chip Capacitor, 0603)
simulation model CAP (Capacitor)
signal-integrity model Cap
footprint C1206 (Chip Capacitor, Body 3.2x1.6mm, IPC High Density)
footprint C1210 (Chip Capacitor, Body 3.2x2.5mm, IPC High Density)
footprint C2225 (Chip Capacitor, Body 5.7x6.4mm, IPC High Density)
footprint C2512 (Chip Capacitor, Body 2.54x1.27mm, IPC High Density)
footprint SMC_D
footprint Vishay293D-A
footprint Vishay293D-B
footprint Panasonic_TPE-D4 (Panasonic, TPE-D4)
footprint C1725 (Chip Resistor Body 4.45x6.35mm)
footprint C1812 (Chip Capacitor, Body 3.2x4.5mm, IPC Medium Density)
pins: 1, 2

## Capacitor-Dummy-THT
designator C?  (value not drawn)
Published: 08.12.2015; Part Description: Capacitor-Dummy-THT; Publisher: Sebastian Kulik; PackageDescription: -; Deliverer: -; Deliverer PartNr: -; Manufacturer: -; Manufacturer PartNr: -; TDE-PN: -; Price: *; Value: Value
footprint Dummy-10mm
simulation model CAP (Capacitor)
signal-integrity model Cap
footprint Dummy-15mm
footprint KEMET-C052H (KEMET, C052H/C062 Series, THT)
pins: 1, 2